# Altium schematic symbol library HEADER-5x2.SchLib: 2 symbols
Pins are listed as number, name and electrical type; pins without a type are passive.

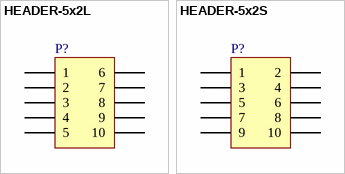
[diagram p0: symbols HEADER-5x2L to HEADER-5x2S]

## HEADER-5x2L
designator P?
pins: 1, 2 6, 3 2, 4 7, 5 3, 6 8, 7 4, 8 9, 9 5, 10

## HEADER-5x2S
designator P?
pins: 1, 2, 3, 4, 5, 6, 7, 8, 9, 10